# Altium footprint library ERJ-P06J103V.PcbLib: 1 footprints
Each footprint in its own frame and in the unit in brackets; x right, y up, seen from the top. Pads: shape width x height; smd on the part's side, far side on the other; paste and mask are expansions set on the pad; w line width, h text height; cw(c..) or ccw(c..) is an arc to the next point about the centre after c.
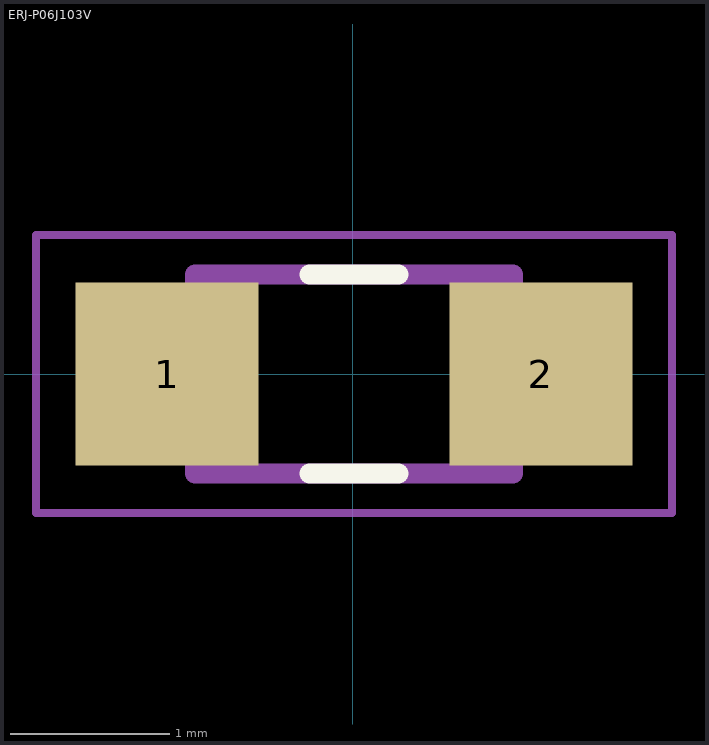
[diagram p0: the footprint, top view; thin cyan lines are the x and y axes]

## ERJ-P06J103V [mm]
pads (2):
  rect 1.15x1.15 smd: 1(-1.166,0) 2(1.184,0)
Top Overlay:
  lines w0.127: -0.271,-0.625 0.289,-0.625 ; -0.271,0.625 0.289,0.625
Mechanical 13:
  lines w0.127: -0.991,-0.625 1.009,-0.625 1.009,0.625 -0.991,0.625 -0.991,-0.625
Mechanical 15:
  lines w0.05: -1.991,-0.875 2.009,-0.875 2.009,0.875 -1.991,0.875 -1.991,-0.875
3D body "step_temp.STEP": height 0.6, standoff 0, extent -0.991,-0.625 1.009,0.625